# Altium footprint library Cap Tantal.PcbLib: 7 footprints
Each footprint in its own frame and in the unit in brackets; x right, y up, seen from the top. Pads: shape width x height; smd on the part's side, far side on the other; paste and mask are expansions set on the pad; w line width, h text height; cw(c..) or ccw(c..) is an arc to the next point about the centre after c.
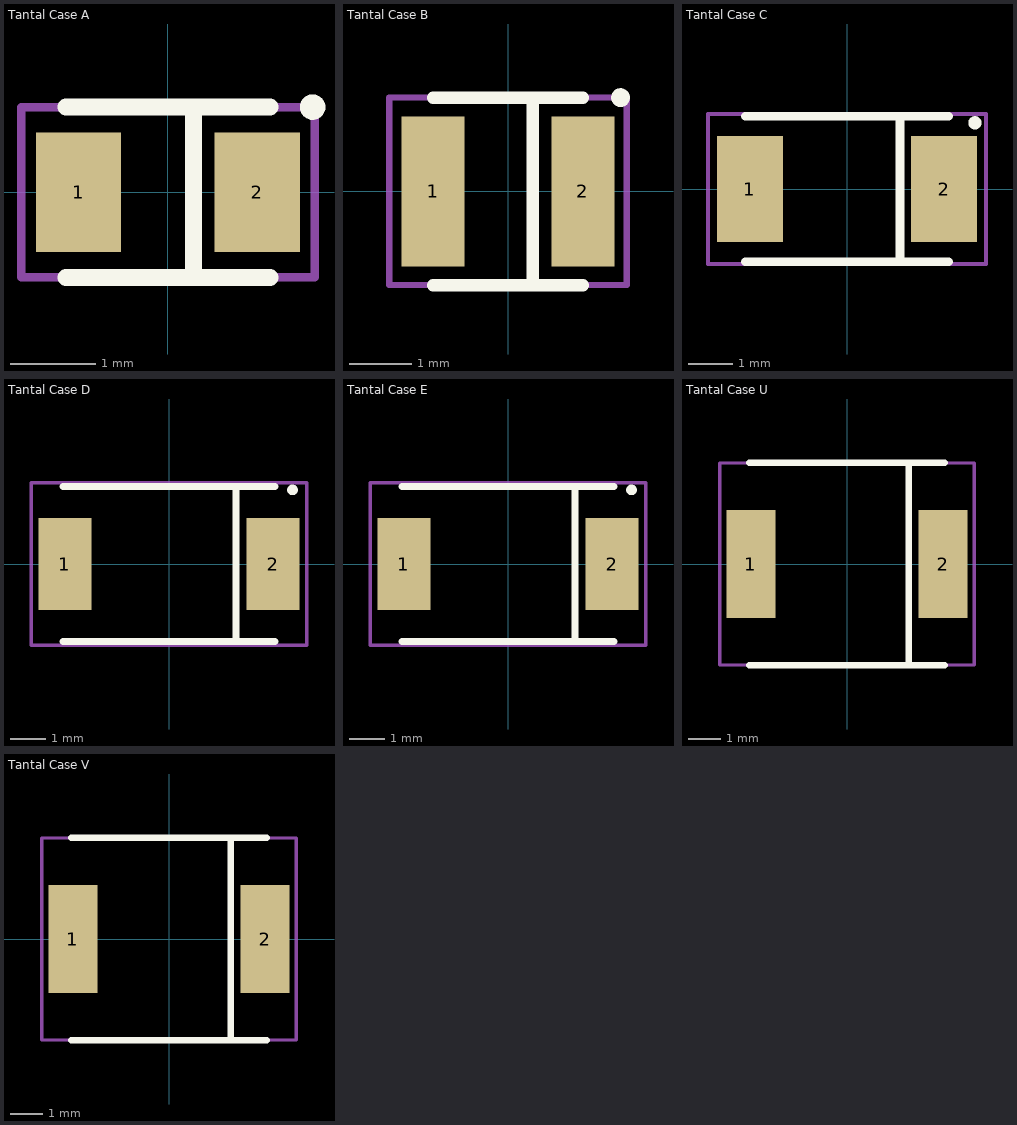
[diagram p0: the footprints below, top view; thin cyan lines are the x and y axes]

## Tantal Case A [mm]
pads (2):
  rect 1x1.4 smd: 1(-1.05,0) 2(1.05,0)
Top Overlay:
  circle w0.15: c1.7,1 r0.075
  lines w0.2: -1.2,-1 1.2,-1 ; -1.2,1 1.2,1 ; 0.3,-1 0.3,1
Border:
  lines w0.1: -1.725,-1 -1.725,1 1.725,1 1.725,-1 -1.725,-1
3D body "User Library-Tantalum Cap Case A.STEP": height 1.6, standoff 0, extent -1.6,-0.8 1.6,0.8

## Tantal Case B [mm]
pads (2):
  rect 1x2.4 smd: 1(-1.2,0) 2(1.2,0)
Top Overlay:
  circle w0.15: c1.8,1.5 r0.075
  lines w0.2: -1.2,-1.5 1.2,-1.5 ; -1.2,1.5 1.2,1.5 ; 0.4,-1.5 0.4,1.5
Border:
  lines w0.1: -1.9,-1.5 1.9,-1.5 1.9,1.5 -1.9,1.5 -1.9,-1.5
3D body "User Library-QT02752.STEP": height 1.95, standoff 0.04, extent -1.831,-1.4 1.832,1.4

## Tantal Case C [mm]
pads (2):
  rect 1.5x2.4 smd: 1(-2.2,0) 2(2.2,0)
Top Overlay:
  circle w0.15: c2.9,1.5 r0.075
  lines w0.2: -2.3,-1.65 2.3,-1.65 ; -2.3,1.65 2.3,1.65 ; 1.2,-1.6 1.2,1.6
Border:
  lines w0.1: -3.15,-1.7 -3.15,1.7 3.15,1.7 3.15,-1.7 -3.15,-1.7
3D body "User Library-C_case.STEP": height 2.7, standoff 0, extent -3.05,-1.675 3.05,1.675

## Tantal Case D [mm]
pads (2):
  rect 1.5x2.6 smd: 1(-2.95,0) 2(2.95,0)
Top Overlay:
  circle w0.15: c3.5,2.1 r0.075
  lines w0.2: -3,-2.2 3,-2.2 ; -3,2.2 3,2.2 ; 1.9,-2.1 1.9,2.2
Border:
  lines w0.1: -3.9,-2.3 -3.9,2.3 3.9,2.3 3.9,-2.3 -3.9,-2.3
3D body "User Library-CAP_TANT_7343-31.STEP": height 3.1, standoff 0, extent -3.8,-2.3 3.8,2.3

## Tantal Case E [mm]
pads (2):
  rect 1.5x2.6 smd: 1(-2.95,0) 2(2.95,0)
Top Overlay:
  circle w0.15: c3.5,2.1 r0.075
  lines w0.2: -3,-2.2 3,-2.2 ; -3,2.2 3,2.2 ; 1.9,-2.1 1.9,2.2
Border:
  lines w0.1: -3.9,-2.3 -3.9,2.3 3.9,2.3 3.9,-2.3 -3.9,-2.3
3D body "User Library-CAP_TANT_7343-31.STEP": height 3.1, standoff 0, extent -3.8,-2.3 3.8,2.3

## Tantal Case U [mm]
pads (2):
  rect 1.5x3.3 smd: 1(-2.95,0) 2(2.95,0)
Top Overlay:
  lines w0.2: -3,-3.1 3,-3.1 ; -3,3.1 3,3.1 ; 1.9,-3.1 1.9,3.1
Border:
  lines w0.1: -3.9,-3.1 3.9,-3.1 3.9,3.1 -3.9,3.1 -3.9,-3.1
3D body "User Library-CaseE_7260-38.STEP": height 3.6, standoff 0, extent -3.65,-3 3.65,3

## Tantal Case V [mm]
pads (2):
  rect 1.5x3.3 smd: 1(-2.95,0) 2(2.95,0)
Top Overlay:
  lines w0.2: -3,-3.1 3,-3.1 ; -3,3.1 3,3.1 ; 1.9,-3.1 1.9,3.1
Border:
  lines w0.1: -3.9,-3.1 3.9,-3.1 3.9,3.1 -3.9,3.1 -3.9,-3.1
3D body "User Library-CaseE_7260-38.STEP": height 3.6, standoff 0, extent -3.65,-3 3.65,3